# Altium footprint library SIP4_CABLE_TRAMPA.PcbLib: 1 footprints
Each footprint in its own frame and in the unit in brackets; x right, y up, seen from the top. Pads: shape width x height; smd on the part's side, far side on the other; paste and mask are expansions set on the pad; w line width, h text height; cw(c..) or ccw(c..) is an arc to the next point about the centre after c.
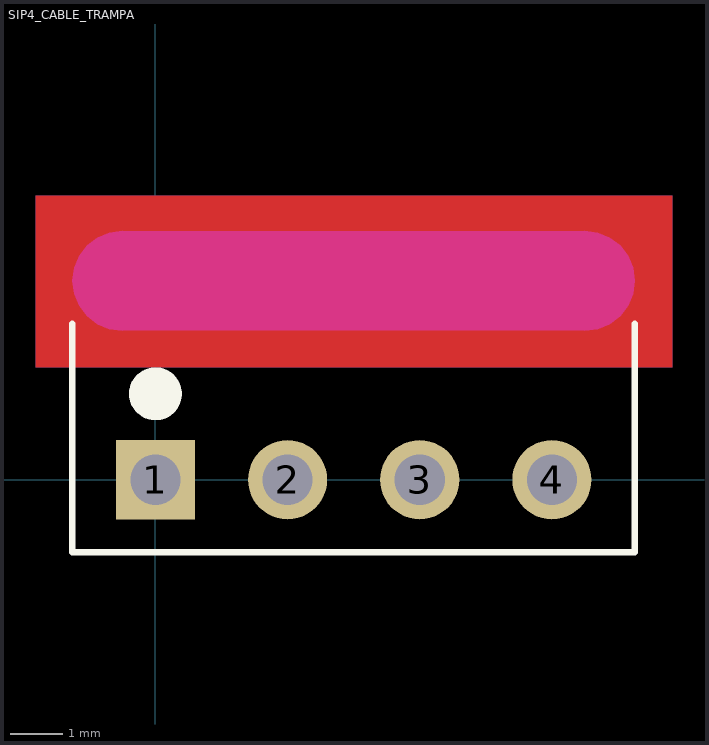
[diagram p0: the footprint, top view; thin cyan lines are the x and y axes]

## SIP4_CABLE_TRAMPA [mil]
pads (4):
  rect 60x60 hole 38: 1(0,0)
  round 60 hole 38: 2(100,0) 3(200,0) 4(300,0)
Top Layer:
  pour cut-out: -90.5,215 -90.5,85 391,85 391,215
Bottom Layer:
  pour cut-out: -90.5,215 -90.5,85 391,85 391,215
Top Overlay:
  circle w20: c0,65 r10
  lines w5: -62.82,118.11 -62.82,-55 362.82,-55 362.82,118.11
Keep-Out Layer:
  board cut-out: -25,188.32 -34.79,187.03 -43.91,183.26 -51.75,177.25 -57.76,169.41 -61.53,160.29 -62.82,150.5 -61.53,140.71 -57.76,131.59 -51.75,123.75 -43.91,117.74 -34.79,113.97 -25,112.68 -25,113 325,112.68 334.79,113.97 343.91,117.74 351.75,123.75 357.76,131.59 361.53,140.71 362.82,150.5 361.53,160.29 357.76,169.41 351.75,177.25 343.91,183.26 334.79,187.03 325,188.32 325,188
Mechanical 4:
  lines w5: -25,113 cw(c-25,150.5) -25,188 325,188 cw(c325,150.5) 325,113 -25,113